# EAGLE library part 418117270904 (library Wurth_Elektronik_Electromechanic_Switch_rev15d)
WS-BS 2.54 mm compact THT Dip Switch with raised actuator, 4 Pole
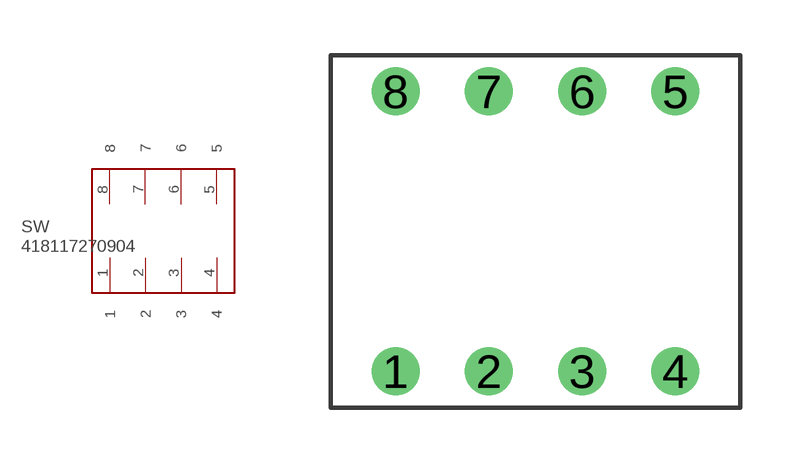
[diagram p59: symbol with the pads of 418117270904; footprint 418117270904]

Designator prefix SW

## 418117270904  [418117270904]
1  1
2  2
3  3
4  4
5  5
6  6
7  7
8  8

## Footprint 418117270904 (pad centres in mm)
WS-BS 2.54 mm compact THT Dip Switch with raised actuator, 4 Pole
drill 0.8: 1 -3.81,-3.81; 2 -1.27,-3.81; 3 1.27,-3.81; 4 3.81,-3.81; 5 3.81,3.81; 6 1.27,3.81; 7 -1.27,3.81; 8 -3.81,3.81